# EAGLE library part CD74HC4050 (library 07-Retrocomputing)
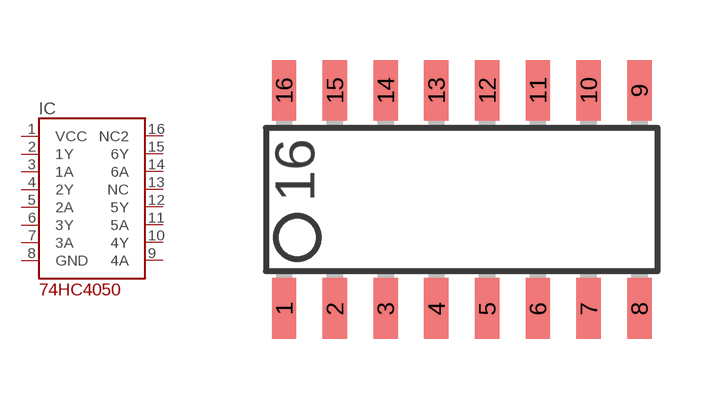
[diagram p28: symbol with the pads of SO-16; footprint SO-16]

Designator prefix IC

## CD74HC4050  [SO-16]
1  VCC
2  1Y
3  1A
4  2Y
5  2A
6  3Y
7  3A
8  GND
9  4A
10  4Y
11  5A
12  5Y
13  NC
14  6A
15  6Y
16  NC2

## Footprint SO-16 (pad centres in mm)
Small Outline Integrated Circuit
smd 0.61 x 1.524: 1 -4.445,-2.794; 2 -3.175,-2.794; 3 -1.905,-2.794; 4 -0.635,-2.794; 5 0.635,-2.794; 6 1.905,-2.794; 7 3.175,-2.794; 8 4.445,-2.794; 9 4.445,2.667; 10 3.175,2.667; 11 1.905,2.667; 12 0.635,2.667; 13 -0.635,2.667; 14 -1.905,2.667; 15 -3.175,2.667; 16 -4.445,2.667